# Altium schematic symbol library Components.SchLib: 3 symbols
Pins are listed as number, name and electrical type; pins without a type are passive.

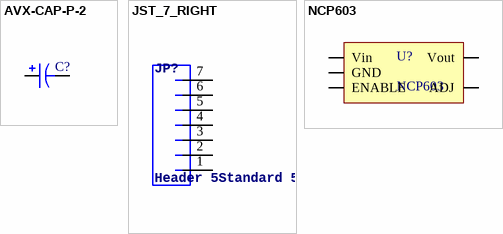
[diagram p0: symbols AVX-CAP-P-2 to NCP603]

## AVX-CAP-P-2
designator C?
footprint AVX-CAPC7343_V (SMT Capacitor, 2 Leads, Body 7.3x4.3mm)
pins: 1, 2

## JST_7_RIGHT
designator JP?, comment Header 5Standard 5-pin 0.1" header. Use with straight break away headers (SKU : PRT-00116), right angle break away headers (PRT-00553), swiss pins (PRT-00743), machine pins (PRT-00117), and female headers (PRT-00115). Molex polarized connector foot print use with SKU : PRT-08230 with associated crimp pins and housings.
footprint JST-7-PTH
pins: 1, 2, 3, 4, 5, 6, 7

## NCP603
designator U?
footprint SOT95P245X110-5N (SOT23, 5-Leads, Body 2.90x2.45mm, Pitch 0.95mm, IPC Medium Density)
pins: ADJ, ENABLE, GND, Vin, Vout